# EAGLE library part SIM908 (library NSL_Tracker)
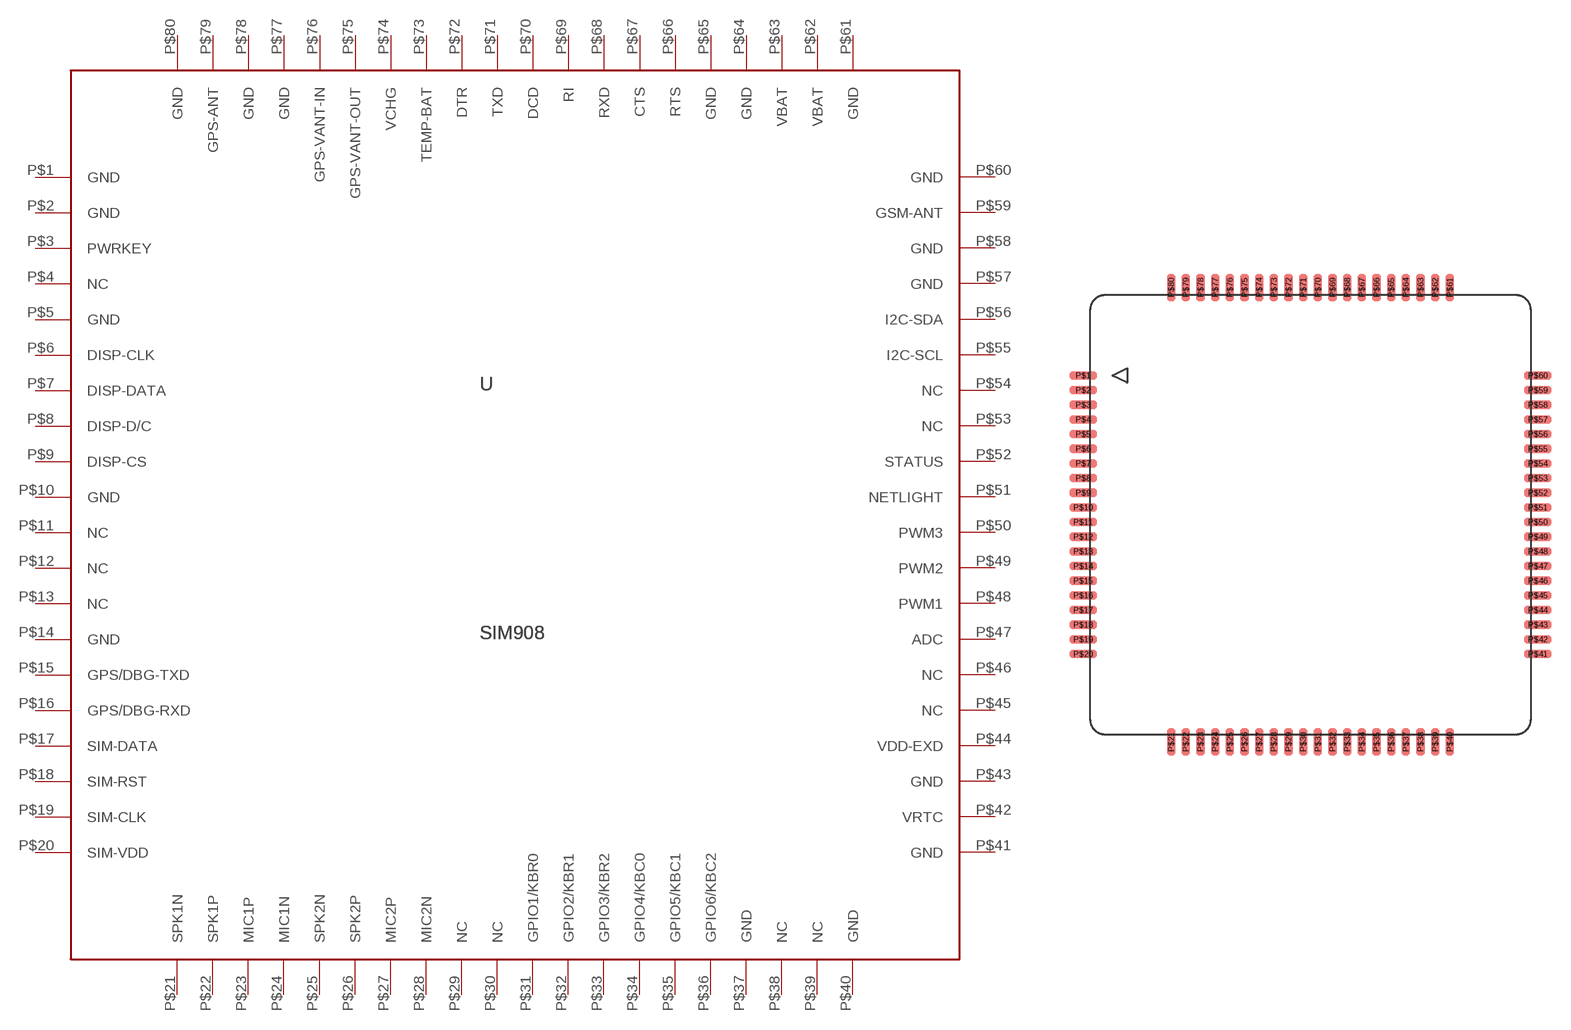
[diagram p0: symbol with the pads of SIM908; footprint SIM908]

Designator prefix -

## SIM908  [SIM908]
P$1  GND
P$2  GND
P$3  PWRKEY
P$4  NC
P$5  GND
P$6  DISP-CLK
P$7  DISP-DATA
P$8  DISP-D/C
P$9  DISP-CS
P$10  GND
P$11  NC
P$12  NC
P$13  NC
P$14  GND
P$15  GPS/DBG-TXD
P$16  GPS/DBG-RXD
P$17  SIM-DATA
P$18  SIM-RST
P$19  SIM-CLK
P$20  SIM-VDD
P$21  SPK1N
P$22  SPK1P
P$23  MIC1P
P$24  MIC1N
P$25  SPK2N
P$26  SPK2P
P$27  MIC2P
P$28  MIC2N
P$29  NC
P$30  NC
P$31  GPIO1/KBR0
P$32  GPIO2/KBR1
P$33  GPIO3/KBR2
P$34  GPIO4/KBC0
P$35  GPIO5/KBC1
P$36  GPIO6/KBC2
P$37  GND
P$38  NC
P$39  NC
P$40  GND
P$41  GND
P$42  VRTC
P$43  GND
P$44  VDD-EXD
P$45  NC
P$46  NC
P$47  ADC
P$48  PWM1
P$49  PWM2
P$50  PWM3
P$51  NETLIGHT
P$52  STATUS
P$53  NC
P$54  NC
P$55  I2C-SCL
P$56  I2C-SDA
P$57  GND
P$58  GND
P$59  GSM-ANT
P$60  GND
P$61  GND
P$62  VBAT
P$63  VBAT
P$64  GND
P$65  GND
P$66  RTS
P$67  CTS
P$68  RXD
P$69  RI
P$70  DCD
P$71  TXD
P$72  DTR
P$73  TEMP-BAT
P$74  VCHG
P$75  GPS-VANT-OUT
P$76  GPS-VANT-IN
P$77  GND
P$78  GND
P$79  GPS-ANT
P$80  GND

## Footprint SIM908 (pad centres in mm)
smd 1.9 x 0.6: P$1 -15.5,9.5; P$2 -15.5,8.5; P$3 -15.5,7.5; P$4 -15.5,6.5; P$5 -15.5,5.5; P$6 -15.5,4.5; P$7 -15.5,3.5; P$8 -15.5,2.5; P$9 -15.5,1.5; P$10 -15.5,0.5; P$11 -15.5,-0.5; P$12 -15.5,-1.5; P$13 -15.5,-2.5; P$14 -15.5,-3.5; P$15 -15.5,-4.5; P$16 -15.5,-5.5; P$17 -15.5,-6.5; P$18 -15.5,-7.5; P$19 -15.5,-8.5; P$20 -15.5,-9.5; P$41 15.5,-9.5; P$42 15.5,-8.5; P$43 15.5,-7.5; P$44 15.5,-6.5; P$45 15.5,-5.5; P$46 15.5,-4.5; P$47 15.5,-3.5; P$48 15.5,-2.5; P$49 15.5,-1.5; P$50 15.5,-0.5; P$51 15.5,0.5; P$52 15.5,1.5; P$53 15.5,2.5; P$54 15.5,3.5; P$55 15.5,4.5; P$56 15.5,5.5; P$57 15.5,6.5; P$58 15.5,7.5; P$59 15.5,8.5; P$60 15.5,9.5
smd 0.6 x 1.9: P$21 -9.5,-15.5; P$22 -8.5,-15.5; P$23 -7.5,-15.5; P$24 -6.5,-15.5; P$25 -5.5,-15.5; P$26 -4.5,-15.5; P$27 -3.5,-15.5; P$28 -2.5,-15.5; P$29 -1.5,-15.5; P$30 -0.5,-15.5; P$31 0.5,-15.5; P$32 1.5,-15.5; P$33 2.5,-15.5; P$34 3.5,-15.5; P$35 4.5,-15.5; P$36 5.5,-15.5; P$37 6.5,-15.5; P$38 7.5,-15.5; P$39 8.5,-15.5; P$40 9.5,-15.5; P$61 9.5,15.5; P$62 8.5,15.5; P$63 7.5,15.5; P$64 6.5,15.5; P$65 5.5,15.5; P$66 4.5,15.5; P$67 3.5,15.5; P$68 2.5,15.5; P$69 1.5,15.5; P$70 0.5,15.5; P$71 -0.5,15.5; P$72 -1.5,15.5; P$73 -2.5,15.5; P$74 -3.5,15.5; P$75 -4.5,15.5; P$76 -5.5,15.5; P$77 -6.5,15.5; P$78 -7.5,15.5; P$79 -8.5,15.5; P$80 -9.5,15.5